# Altium footprint library Transformer_ETD_59.PcbLib: 1 footprints
Each footprint in its own frame and in the unit in brackets; x right, y up, seen from the top. Pads: shape width x height; smd on the part's side, far side on the other; paste and mask are expansions set on the pad; w line width, h text height; cw(c..) or ccw(c..) is an arc to the next point about the centre after c.
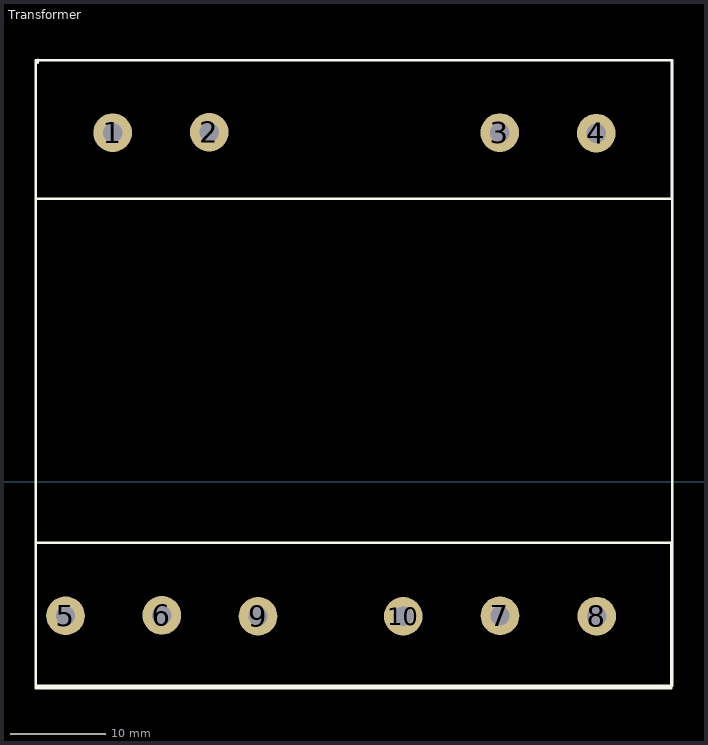
[diagram p0: the footprint, top view; thin cyan lines are the x and y axes]

## Transformer [mil]
pads (10):
  round 160 hole 80: 1(2829,1446) 2(3229,1448) 3(4432,1446) 4(4832,1444) 5(2634,-555) 6(3033,-553) 7(4433,-554) 8(4834,-556) 9(3431,-557) 10(4032,-557)
Top Overlay:
  lines w10: 2511,-845 2512,-845 2512,-854 2511,-854 2511,-845 ; 2511,-845 5146,-845 5146,1745 2511,1745 ; 2511,-845 2511,1745 ; 2511,1745 5144,1745 5144,1173 2511,1173 2511,1745 ; 2511.5,-854 5142,-854 5142,-253 2511.5,-253 2511.5,-854 ; 2520,1736 2520,1747 2520,1736
3D body "ETD59.STEP": height 2023.61, standoff -72.71, extent 2515,-858.16 5148.86,1744.16